# EAGLE library part 6620XX235922_662020235922 (library Wurth_Connectors_WR-MPC3)
WR-MPC3 3.00 mm SMT Male Dual Row Vertical Header with THT Retention Clip KIND PROPERTIES: Pitch:3 mm Gender:Male MATERIAL PROPERTIES: Insulator Material:LCP Insulator Flammability Rating:UL94 V-0 Insulator Color:Black Contact Material:Copper Alloy Contact Plating:Tin Contact Type:Stamped GENERAL INFORMATION Operating Temperature:-40 up to +105 °C Compliance:RoHS Working Voltage:250V (AC) Withstanding Voltage:1500 V (AC) Contact Resistance:10 mΩ RISO:1000 MΩ CERTIFICATION UL Approval:E323964 PACKAGING PROPERTIES Packaging:Tube <https://katalog.we-online.com/media/images/v2/o33178v209%20Family_WR-MPC3_662xxx235922.jpg> Details see: https://katalog.we-online.com/en/em/MPC3_3_00_SMT_MALE_DUAL_ROW_VERTICAL_HEADER_W_THT_RETENTION_CLIP_6620XX235922 Updated by Yingchun,Shan 2019-11-13 2019 (C) Würth Elektronik
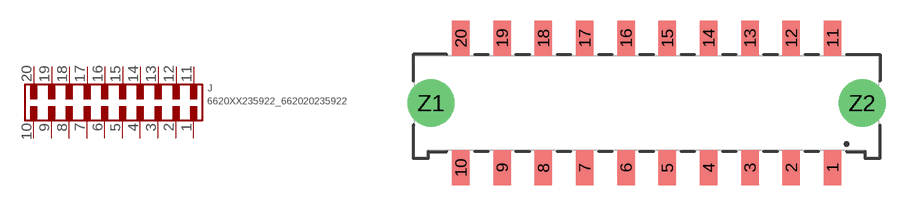
[diagram p39: symbol with the pads of 662020235922; footprint 662020235922]

Designator prefix J

## 6620XX235922_662020235922 (CONTACT-RESISTANCE: 10Ohm; DATASHEET-URL: https://www.we-online.com/redexpert/spec/662020235922?ae; GENDER: Male; IR: 5A; MOUNT: SMT; PART-NUMBER: 662020235922; PINS: 20; PITCH: 3mm; ROWS: Dual; TOL-R: max.; TYPE: Vertical; VALUE: 662020235922; WORKING-VOLTAGE: 250V(AC))  [662020235922]
1  1  pas
2  2  pas
3  3  pas
4  4  pas
5  5  pas
6  6  pas
7  7  pas
8  8  pas
9  9  pas
10  10  pas
11  11  pas
12  12  pas
13  13  pas
14  14  pas
15  15  pas
16  16  pas
17  17  pas
18  18  pas
19  19  pas
20  20  pas

## Footprint 662020235922 (pad centres in mm)
WR-MPC3 3.00 mm SMT Male Dual Row Vertical Header with THT Retention Clip, 20 Pins
smd 1.27 x 2.54: 1 13.5,-4.7; 2 10.5,-4.7; 3 7.5,-4.7; 4 4.5,-4.7; 5 1.5,-4.7; 6 -1.5,-4.7; 7 -4.5,-4.7; 8 -7.5,-4.7; 9 -10.5,-4.7; 10 -13.5,-4.7; 11 13.5,4.7; 12 10.5,4.7; 13 7.5,4.7; 14 4.5,4.7; 15 1.5,4.7; 16 -1.5,4.7; 17 -4.5,4.7; 18 -7.5,4.7; 19 -10.5,4.7; 20 -13.5,4.7
drill 2.41: Z1 -15.66,0; Z2 15.66,0